# Altium footprint library PcbLib_AMT.PcbLib: 1 footprints
Each footprint in its own frame and in the unit in brackets; x right, y up, seen from the top. Pads: shape width x height; smd on the part's side, far side on the other; paste and mask are expansions set on the pad; w line width, h text height; cw(c..) or ccw(c..) is an arc to the next point about the centre after c.
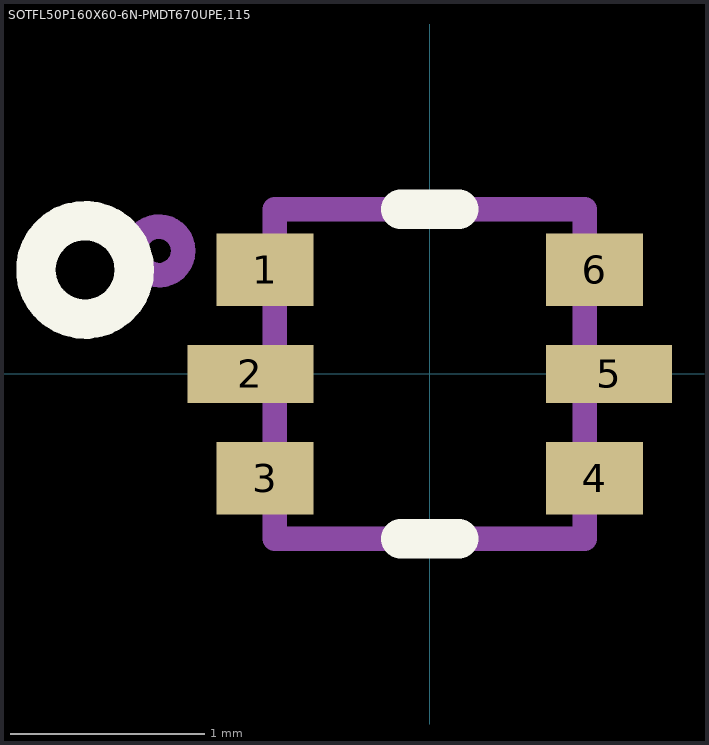
[diagram p0: the footprint, top view; thin cyan lines are the x and y axes]

## SOTFL50P160X60-6N-PMDT670UPE,115 [mm] "SOTFL, 6-Leads, Body 1.60x1.60mm, Pitch 0.50mm, IPC Medium Density"
height 0.6
pads (6):
  rect 0.5x0.375 smd mask+0.076: 1(-0.85,0.538) 3(-0.85,-0.537) 4(0.85,-0.537) 6(0.85,0.538)
  rect 0.65x0.3 smd mask+0.076: 2(-0.925,0) 5(0.925,0)
Top Overlay:
  circle w0.203: c-1.778,0.537 r0.254
  lines w0.203: -0.15,-0.85 0.15,-0.85 ; -0.15,0.85 0.15,0.85
Mechanical 1:
  text "'.Designator'" at 0,0 h1.02
Mechanical 15 (Mech15):
  circle w0.127: c-1.397,0.635 r0.125
  lines w0.127: -0.8,-0.85 0.8,-0.85 0.8,0.85 -0.8,0.85 -0.8,-0.85
3D body "SOT666.step": height 0.57, standoff 0, extent -0.8,-0.762 0.8,0.838